# EAGLE library part ESPR-DEV-TYPEC (library ESPr-developer-typeC)
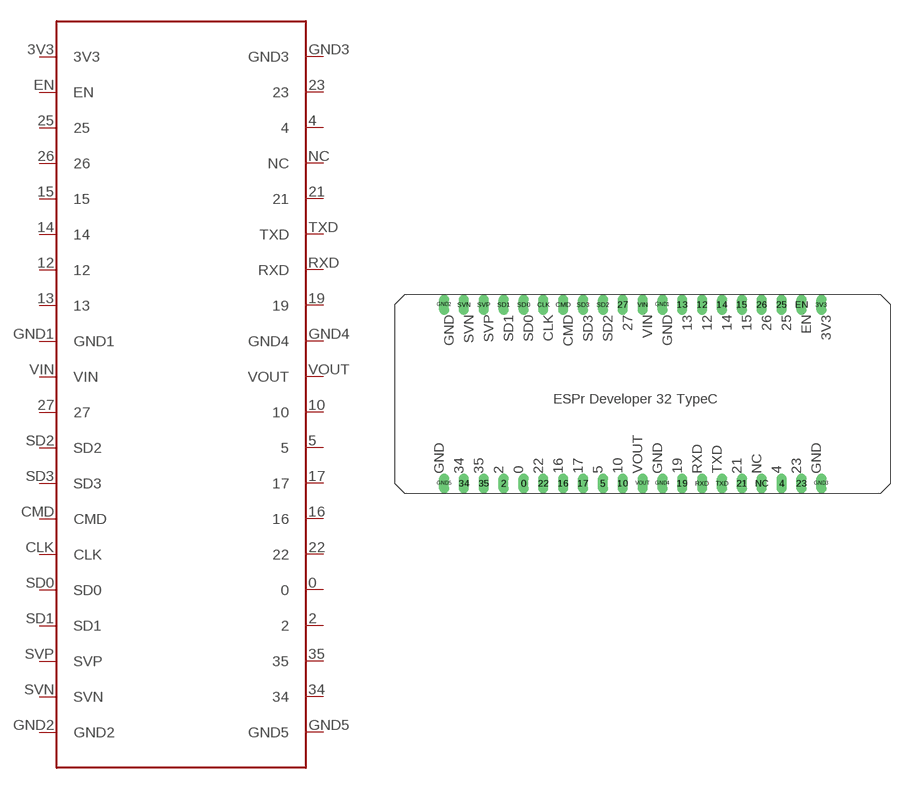
[diagram p0: symbol with the pads of ESPR-DEV-TYPEC; footprint ESPR-DEV-TYPEC]

Designator prefix -

## ESPR-DEV-TYPEC  [ESPR-DEV-TYPEC]
0  0
2  2
3V3  3V3
4  4
5  5
10  10
12  12
13  13
14  14
15  15
16  16
17  17
19  19
21  21
22  22
23  23
25  25
26  26
27  27
34  34
35  35
CLK  CLK
CMD  CMD
EN  EN
GND1  GND1
GND2  GND2
GND3  GND3
GND4  GND4
GND5  GND5
NC  NC
RXD  RXD
SD0  SD0
SD1  SD1
SD2  SD2
SD3  SD3
SVN  SVN
SVP  SVP
TXD  TXD
VIN  VIN
VOUT  VOUT

## Footprint ESPR-DEV-TYPEC (pad centres in mm)
drill 0.8 long: 0 -19.05,-7.62; 2 -21.59,-7.62; 3V3 19.05,15.24; 4 13.97,-7.62; 5 -8.89,-7.62; 10 -6.35,-7.62; 12 3.81,15.24; 13 1.27,15.24; 14 6.35,15.24; 15 8.89,15.24; 16 -13.97,-7.62; 17 -11.43,-7.62; 19 1.27,-7.62; 21 8.89,-7.62; 22 -16.51,-7.62; 23 16.51,-7.62; 25 13.97,15.24; 26 11.43,15.24; 27 -6.35,15.24; 34 -26.67,-7.62; 35 -24.13,-7.62; CLK -16.51,15.24; CMD -13.97,15.24; EN 16.51,15.24; GND1 -1.27,15.24; GND2 -29.21,15.24; GND3 19.05,-7.62; GND4 -1.27,-7.62; GND5 -29.21,-7.62; NC 11.43,-7.62; RXD 3.81,-7.62; SD0 -19.05,15.24; SD1 -21.59,15.24; SD2 -8.89,15.24; SD3 -11.43,15.24; SVN -26.67,15.24; SVP -24.13,15.24; TXD 6.35,-7.62; VIN -3.81,15.24; VOUT -3.81,-7.62